# EAGLE library part LM27762DSSR (library LM27762DSSR)
LDO Voltage Regulators Low-Noise Positive- and Negative-Output Integrated Switched Capacitor Plus LDO 12-WSON -40 to 85 Source: Datasheet <https://www.ti.com/lit/ds/symlink/lm27762.pdf>
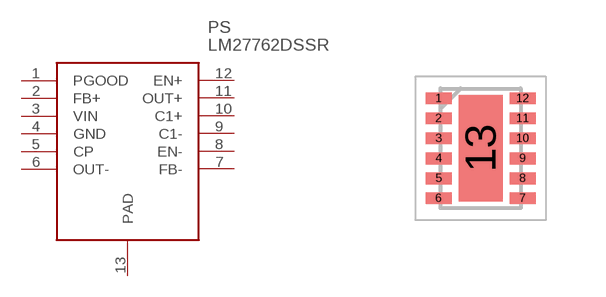
[diagram p0: symbol with the pads of SON50P200X300X80-13N; footprint SON50P200X300X80-13N]

Designator prefix PS

## LM27762DSSR (Description: LDO Voltage Regulators Low-Noise Positive- and Negative-Output Integrated Switched Capacitor Plus LDO 12-WSON -40 to 85; Height: 0.8mm; Manufacturer_Name: Texas Instruments; Manufacturer_Part_Number: LM27762DSSR; Mouser_Part_Number: 595-LM27762DSSR; Mouser_Price-Stock: https://www.mouser.co.uk/ProductDetail/Texas-Instruments/LM27762DSSR?qs=vcbl%252BK4rRlfEJcC9xQ80sA%3D%3D)  [SON50P200X300X80-13N]
1  PGOOD  out
2  FB+  pwr
3  VIN  pwr
4  GND  pwr
5  CP  pwr
6  OUT-  pwr
7  FB-  pwr
8  EN-  in
9  C1-  pwr
10  C1+  pwr
11  OUT+  pwr
12  EN+  in
13  PAD  pwr

## Footprint SON50P200X300X80-13N (pad centres in mm)
WSON-12
smd 0.65 x 0.3: 1 -1.05,1.25; 2 -1.05,0.75; 3 -1.05,0.25; 4 -1.05,-0.25; 5 -1.05,-0.75; 6 -1.05,-1.25; 7 1.05,-1.25; 8 1.05,-0.75; 9 1.05,-0.25; 10 1.05,0.25; 11 1.05,0.75; 12 1.05,1.25
smd 1.1 x 2.66: 13 0,0